# Altium footprint library Game Joystick P5101.PcbLib: 38 footprints (part 2 of 3)
Each footprint in its own frame and in the unit in brackets; x right, y up, seen from the top. Pads: shape width x height; smd on the part's side, far side on the other; paste and mask are expansions set on the pad; w line width, h text height; cw(c..) or ccw(c..) is an arc to the next point about the centre after c.
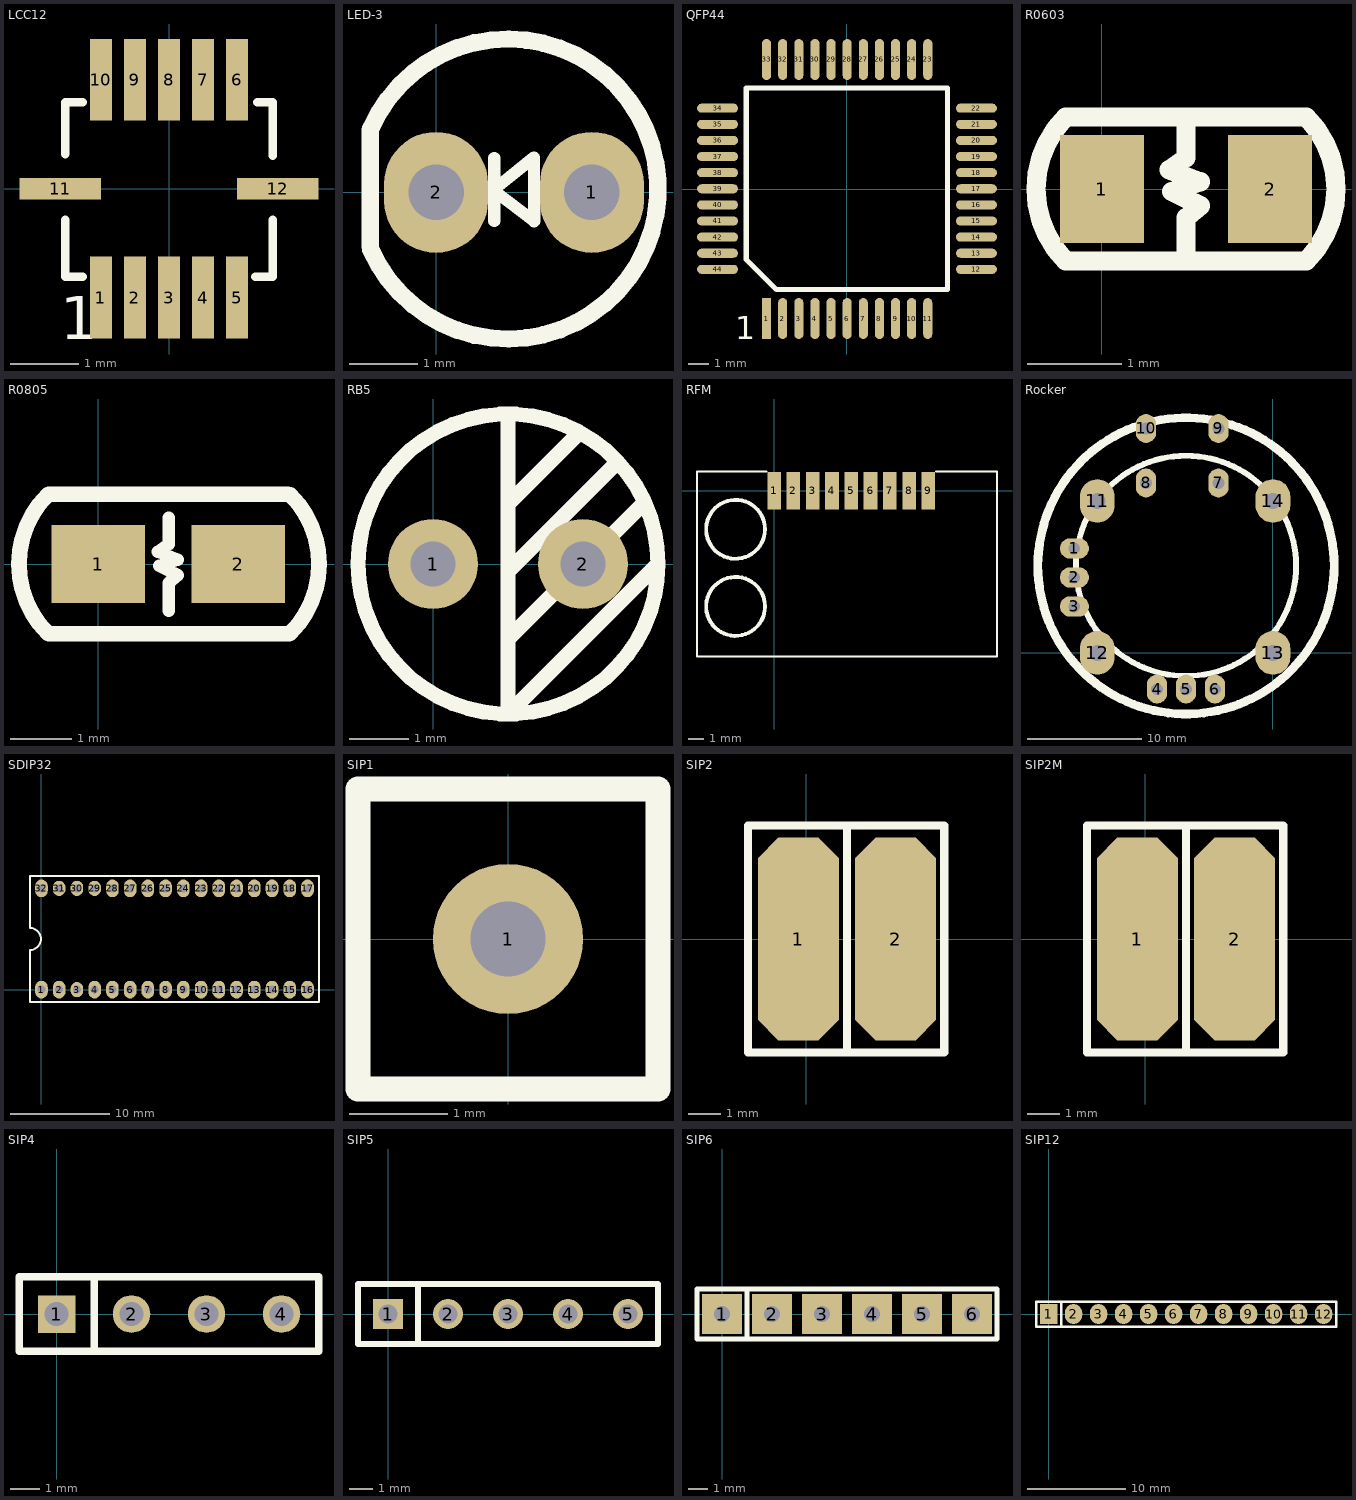
[diagram p1: the footprints below, top view; thin cyan lines are the x and y axes]

## LCC12 [mm]
pads (12):
  rect 0.32x1.2 smd: 1(-1,-1.6) 2(-0.5,-1.6) 3(0,-1.6) 4(0.5,-1.6) 5(1,-1.6) 6(1,1.6) 7(0.5,1.6) 8(0,1.6) 9(-0.5,1.6) 10(-1,1.6)
  rect 1.2x0.32 smd: 11(-1.6,0) 12(1.6,0)
Top Overlay:
  lines w0.127: -1.524,-0.457 -1.524,-1.295 -1.27,-1.295 ; -1.524,0.508 -1.524,1.27 -1.27,1.27 ; 1.27,-1.295 1.524,-1.295 1.524,-0.457 ; 1.295,1.27 1.524,1.27 1.524,0.483
  text "1" at -1.6,-2.21 h0.64

## LED-3 [mil]
pads (2):
  oval 60x70 hole 32.01: 1(90,0) 2(0,0)
Top Overlay:
  lines w7: 16.3,-0.21 31.66,-0.21 ; 33.35,1.58 56.5,20.2 ; 33.61,-16.5 33.61,19.94 ; 33.8,0.68 56.65,-16.72 ; 56.52,20.26 56.68,-16.54 ; 57.02,0.18 73.56,0.18
  lines w10: -38.01,-31.14 -38,36 ; -37.7,-33.09 ccw(c41.53,1.97) -37.71,36.98

## QFP44 [mm]
pads (44):
  rect 0.45x2.032 smd: 1(-3.988,-6.43)
  oval 0.45x2.032 smd: 2(-3.188,-6.43) 3(-2.388,-6.43) 4(-1.588,-6.43) 5(-0.788,-6.43) 6(0.012,-6.43) 7(0.812,-6.43) 8(1.612,-6.43) 9(2.412,-6.43) 10(3.212,-6.43) 11(4.012,-6.43) 23(4.013,6.43) 24(3.213,6.43) 25(2.413,6.43) 26(1.613,6.43) 27(0.813,6.43) 28(0.013,6.43) 29(-0.787,6.43) 30(-1.587,6.43) 31(-2.387,6.43) 32(-3.187,6.43) 33(-3.987,6.43)
  oval 2.032x0.45 smd: 12(6.43,-3.988) 13(6.43,-3.188) 14(6.43,-2.388) 15(6.43,-1.588) 16(6.43,-0.788) 17(6.43,0.012) 18(6.43,0.812) 19(6.43,1.612) 20(6.43,2.412) 21(6.43,3.212) 22(6.43,4.012) 34(-6.422,4.011) 35(-6.422,3.212) 36(-6.422,2.412) 37(-6.422,1.612) 38(-6.422,0.812) 39(-6.422,0.012) 40(-6.422,-0.788) 41(-6.422,-1.588) 42(-6.422,-2.388) 43(-6.422,-3.188) 44(-6.422,-3.988)
Top Overlay:
  lines w0.254: -5,-3.505 -3.505,-4.99 4.99,-4.99 4.99,5.01 -5,5.008 -5,-3.505
  text "1" at -5.537,-7.446 h1.14

## R0603 [mil]
pads (2):
  rect 35x45 smd: 1(0,0) 2(70,0)
Top Overlay:
  lines w8: 35,-30 35,-12 41,-7 29,-1 41,3 28,8 35,13 35,30 ; -15,-30 cw(c15,0) -15,30 85,30 cw(c55,0) 85,-30 -15,-30

## R0805 [mil]
pads (2):
  rect 60x50 smd: 1(0,0) 2(90,0)
Top Overlay:
  lines w8: 45.25,-30.2 45.25,-12.2 51.25,-7.2 39.25,-1.2 51.25,2.8 38.25,7.8 45.25,12.8 45.25,29.8
  lines w10: -32.55,-44.55 cw(c12,0) -32.55,44.55 ; -32,-45 25,-45 ; -32,45 25,45 ; 6,45 79,45 ; 19,-45 72,-45 ; 60,45 122,44.96 ; 65,-45 123,-45 ; 123.55,-44.55 ccw(c79,0) 123.55,44.55

## RB5 [mil]
pads (2):
  round 60 hole 30: 1(0,0) 2(100,0)
Top Overlay:
  circle w10: c50,0 r100
  lines w10: 50,-75 50,-50 140,40 ; 50,-25 50,-5 120,65 ; 50,15 50,40 95,85 ; 50,100 50,-100 150,0

## RFM [mm]
pads (9):
  rect 0.9x2.5 smd: 1(0,0) 2(1.27,0) 3(2.54,0) 4(3.81,0) 5(5.08,0) 6(6.35,0) 7(7.62,0) 8(8.89,0) 9(10.16,0)
Top Overlay:
  circle w0.254: c-2.54,-2.54 r1.939
  circle w0.254: c-2.54,-7.62 r1.939
  lines w0.127: -0.508,1.27 -5.08,1.27 -5.08,-10.922 14.68,-10.922 14.68,1.27 10.668,1.27

## Rocker [mil]
height 5
pads (14):
  oval 100x70 hole 40: 1(-685,360) 2(-685,260) 3(-685,160)
  oval 70x100 hole 40: 4(-400,-125) 5(-300,-125) 6(-200,-125) 7(-188.01,585.98) 8(-438,586) 9(-188,774) 10(-438,774)
  oval 120x150 hole 55: 11(-606,524) 12(-606,0) 13(0,0) 14(0,524)
Top Overlay:
  circle w30: c-300,300 r511
  circle w20: c-300,300 r380

## SDIP32 [mil]
pads (32):
  oval 50x70 hole 32: 1(0,0) 2(70.08,0) 4(210.24,0) 5(280.31,0) 6(350.39,0) 7(420.47,0) 8(490.55,0) 9(560.63,0) 10(630.71,0) 11(700.79,0) 12(770.87,0) 13(840.94,0) 14(911.02,0) 15(981.1,0) 16(1051.18,0)
  oval 50x60 hole 32: 3(140.16,0)
  oval 50x70 hole 32.01: 17(1051.18,400) 18(981.1,400) 19(911.02,400) 20(840.94,400) 21(770.87,400) 22(700.79,400) 23(630.71,400) 24(560.63,400) 25(490.55,400) 26(420.47,400) 27(350.39,400) 28(280.31,400) 32(0,400)
  oval 50x60 hole 32.01: 29(210.24,400) 30(140.16,400) 31(70.08,400)
Top Overlay:
  lines w7.87: -45.28,156.69 ccw(c-45.28,200) -45.28,243.31
  lines w7.99: -45.28,156.69 -45.28,-48.03 1096.46,-48.03 1096.46,448.03 -45.28,448.03 -45.28,243.31

## SIP1 [mil]
pads (1):
  round 60 hole 30: 1(0,0)
Top Overlay:
  lines w10: -60,-60 -60,60 60,60 60,-60 -60,-60

## SIP2 [mil]
pads (2):
  oct 100x250 smd: 1(-10,0) 2(110,0)
Top Overlay:
  lines w10: 50,-138 50,140 ; -72,-140 -72,140 170,140 170,-140 -72,-140

## SIP2M [mil]
pads (2):
  oct 100x250 smd: 1(-10,0) 2(110,0)
Top Overlay:
  lines w10: 50,-138 50,140 ; -72,-140 -72,140 170,140 170,-140 -72,-140

## SIP4 [mil]
pads (4):
  rect 50x50 hole 32: 1(0,0)
  round 50 hole 32: 2(100,0) 3(200,0) 4(300,0)
Top Overlay:
  lines w10: 50,-50 50,50 ; -50,-50 350,-50 350,50 -50,50 -50,-50

## SIP5 [mil]
pads (5):
  rect 50x50 hole 32: 1(0,0)
  round 50 hole 32: 2(100,0) 3(200,0) 4(300,0) 5(400,0)
Top Overlay:
  lines w10: 50,-50 50,50 ; -50,-50 450,-50 450,50 -50,50 -50,-50

## SIP6 [mil]
pads (6):
  rect 80x80 hole 32: 1(0,0) 2(100,0) 3(200,0) 4(300,0) 5(400,0) 6(500,0)
Top Overlay:
  lines w10: 50,-50 50,50 ; -50,-50 -50,50 550,50 550,-50 -50,-50

## SIP12 [mil]
pads (12):
  rect 70x80 smd: 1(0,0)
  oval 70x80 smd: 2(100,0) 3(200,0) 4(300,0) 5(400,0) 6(500,0) 7(600,0) 8(700,0) 9(800,0) 10(900,0) 11(1000,0) 12(1100,0)
Top Overlay:
  lines w10: 50,-50 50,50 ; -50,-50 1150,-50 1150,50 -50,50 -50,-50